# Altium schematic symbol library SCH - SWITCHES - DGI DSIC01LSGET.SCHLIB: 1 symbol
Pins are listed as number, name and electrical type; pins without a type are passive.

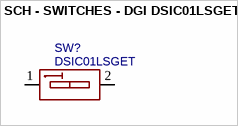
[diagram p0: symbol SCH - SWITCHES - DGI DSIC01LSGET]

## SCH - SWITCHES - DGI DSIC01LSGET
designator SW?, comment DSIC01LSGET
BOM_Manufacturer: YE; BOM_Supplier: LCSC; BOM_Manufacturer Part: DSIC01LSGET; BOM_Supplier Part: C54948; BOM_JLCPCB Part Class: Extended Part; spicePre: S; spiceSymbolName: DSIC01LSGET
footprint PCB - SWITCHES - DGI DSIC01LSGET (Footprint not found)
pins: 1 A1, 2 A2